# Altium footprint library SMPM-PF-P-HG-ST-EM-1.PcbLib: 1 footprints
Each footprint in its own frame and in the unit in brackets; x right, y up, seen from the top. Pads: shape width x height; smd on the part's side, far side on the other; paste and mask are expansions set on the pad; w line width, h text height; cw(c..) or ccw(c..) is an arc to the next point about the centre after c.
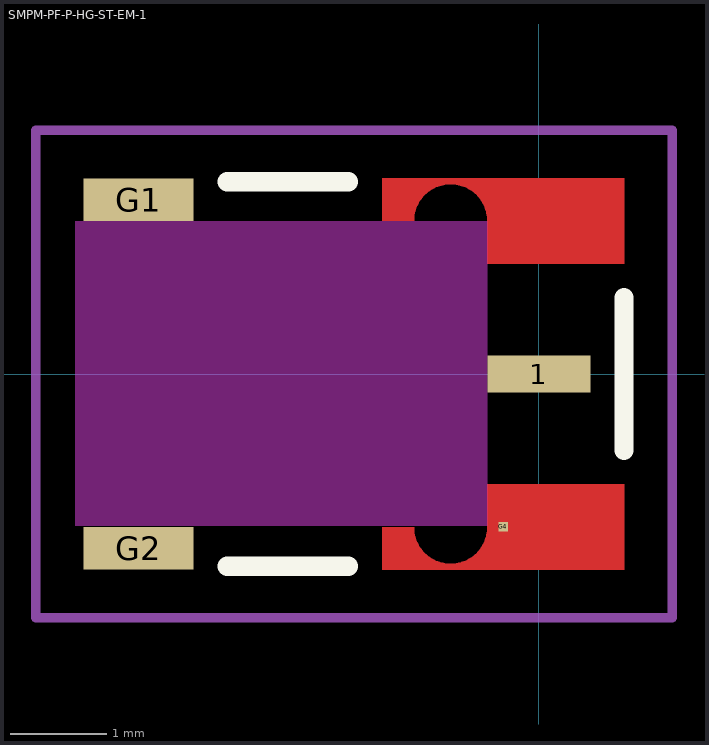
[diagram p0: the footprint, top view; thin cyan lines are the x and y axes]

## SMPM-PF-P-HG-ST-EM-1 [mm]
pads (4):
  rect 1.07x0.38 smd: 1(0,0)
  rect 1.14x0.44 smd: G1(-4.155,1.81) G2(-4.155,-1.81)
  rect 0.1x0.1 smd paste-1 mask+0: G4(-0.37,-1.587)
Top Layer:
  region: 0.885,-2.03 -1.625,-2.03 -1.625,-1.59 -1.295,-1.59 -1.294,-1.61 -1.293,-1.63 -1.29,-1.649 -1.287,-1.669 -1.282,-1.688 -1.276,-1.707 -1.27,-1.726 -1.262,-1.745 -1.254,-1.763 -1.244,-1.78 -1.234,-1.797 -1.222,-1.813 -1.21,-1.829 -1.197,-1.844 -1.184,-1.859 -1.169,-1.872 -1.154,-1.885 -1.138,-1.897 -1.122,-1.909 -1.105,-1.919 -1.088,-1.929 -1.07,-1.937 -1.051,-1.945 -1.032,-1.951 -1.013,-1.957 -0.994,-1.962 -0.974,-1.965 -0.955,-1.968 -0.935,-1.969 -0.915,-1.97 -0.895,-1.969 -0.875,-1.968 -0.856,-1.965 -0.836,-1.962 -0.817,-1.957 -0.798,-1.951 -0.779,-1.945 -0.76,-1.937 -0.742,-1.929 -0.725,-1.919 -0.708,-1.909 -0.692,-1.897 -0.676,-1.885 -0.661,-1.872 -0.646,-1.859 -0.633,-1.844 -0.62,-1.829 -0.608,-1.813 -0.596,-1.797 -0.586,-1.78 -0.576,-1.763 -0.568,-1.745 -0.56,-1.726 -0.554,-1.707 -0.548,-1.688 -0.543,-1.669 -0.54,-1.649 -0.537,-1.63 -0.536,-1.61 -0.535,-1.59 -0.535,-1.145 0.885,-1.145
  region: 0.885,1.145 -0.535,1.145 -0.535,1.59 -0.536,1.61 -0.537,1.63 -0.54,1.649 -0.543,1.669 -0.548,1.688 -0.554,1.707 -0.56,1.726 -0.568,1.745 -0.576,1.763 -0.586,1.78 -0.596,1.797 -0.608,1.813 -0.62,1.829 -0.633,1.844 -0.646,1.859 -0.661,1.872 -0.676,1.885 -0.692,1.897 -0.708,1.909 -0.725,1.919 -0.742,1.929 -0.76,1.937 -0.779,1.945 -0.798,1.951 -0.817,1.957 -0.836,1.962 -0.856,1.965 -0.875,1.968 -0.895,1.969 -0.915,1.97 -0.935,1.969 -0.955,1.968 -0.974,1.965 -0.994,1.962 -1.013,1.957 -1.032,1.951 -1.051,1.945 -1.07,1.937 -1.088,1.929 -1.105,1.919 -1.122,1.909 -1.138,1.897 -1.154,1.885 -1.169,1.872 -1.184,1.859 -1.197,1.844 -1.21,1.829 -1.222,1.813 -1.234,1.797 -1.244,1.78 -1.254,1.763 -1.262,1.745 -1.27,1.726 -1.276,1.707 -1.282,1.688 -1.287,1.669 -1.29,1.649 -1.293,1.63 -1.294,1.61 -1.295,1.59 -1.625,1.59 -1.625,2.03 0.885,2.03
Top Overlay:
  lines w0.2: -3.235,-1.995 -1.975,-1.995 ; -3.235,1.995 -1.975,1.995 ; 0.885,-0.795 0.885,0.795
Top Paste:
  region: 0.885,-2.03 -1.625,-2.03 -1.625,-1.59 -1.295,-1.59 -1.294,-1.61 -1.293,-1.63 -1.29,-1.649 -1.287,-1.669 -1.282,-1.688 -1.276,-1.707 -1.27,-1.726 -1.262,-1.745 -1.254,-1.763 -1.244,-1.78 -1.234,-1.797 -1.222,-1.813 -1.21,-1.829 -1.197,-1.844 -1.184,-1.859 -1.169,-1.872 -1.154,-1.885 -1.138,-1.897 -1.122,-1.909 -1.105,-1.919 -1.088,-1.929 -1.07,-1.937 -1.051,-1.945 -1.032,-1.951 -1.013,-1.957 -0.994,-1.962 -0.974,-1.965 -0.955,-1.968 -0.935,-1.969 -0.915,-1.97 -0.895,-1.969 -0.875,-1.968 -0.856,-1.965 -0.836,-1.962 -0.817,-1.957 -0.798,-1.951 -0.779,-1.945 -0.76,-1.937 -0.742,-1.929 -0.725,-1.919 -0.708,-1.909 -0.692,-1.897 -0.676,-1.885 -0.661,-1.872 -0.646,-1.859 -0.633,-1.844 -0.62,-1.829 -0.608,-1.813 -0.596,-1.797 -0.586,-1.78 -0.576,-1.763 -0.568,-1.745 -0.56,-1.726 -0.554,-1.707 -0.548,-1.688 -0.543,-1.669 -0.54,-1.649 -0.537,-1.63 -0.536,-1.61 -0.535,-1.59 -0.535,-1.145 0.885,-1.145
  region: 0.885,1.145 -0.535,1.145 -0.535,1.59 -0.536,1.61 -0.537,1.63 -0.54,1.649 -0.543,1.669 -0.548,1.688 -0.554,1.707 -0.56,1.726 -0.568,1.745 -0.576,1.763 -0.586,1.78 -0.596,1.797 -0.608,1.813 -0.62,1.829 -0.633,1.844 -0.646,1.859 -0.661,1.872 -0.676,1.885 -0.692,1.897 -0.708,1.909 -0.725,1.919 -0.742,1.929 -0.76,1.937 -0.779,1.945 -0.798,1.951 -0.817,1.957 -0.836,1.962 -0.856,1.965 -0.875,1.968 -0.895,1.969 -0.915,1.97 -0.935,1.969 -0.955,1.968 -0.974,1.965 -0.994,1.962 -1.013,1.957 -1.032,1.951 -1.051,1.945 -1.07,1.937 -1.088,1.929 -1.105,1.919 -1.122,1.909 -1.138,1.897 -1.154,1.885 -1.169,1.872 -1.184,1.859 -1.197,1.844 -1.21,1.829 -1.222,1.813 -1.234,1.797 -1.244,1.78 -1.254,1.763 -1.262,1.745 -1.27,1.726 -1.276,1.707 -1.282,1.688 -1.287,1.669 -1.29,1.649 -1.293,1.63 -1.294,1.61 -1.295,1.59 -1.625,1.59 -1.625,2.03 0.885,2.03
Top Solder:
  region: 0.985,-2.13 -1.725,-2.13 -1.725,-1.59 -1.295,-1.59 -1.294,-1.61 -1.293,-1.63 -1.29,-1.649 -1.287,-1.669 -1.282,-1.688 -1.276,-1.707 -1.27,-1.726 -1.262,-1.745 -1.254,-1.763 -1.244,-1.78 -1.234,-1.797 -1.222,-1.813 -1.21,-1.829 -1.197,-1.844 -1.184,-1.859 -1.169,-1.872 -1.154,-1.885 -1.138,-1.897 -1.122,-1.909 -1.105,-1.919 -1.088,-1.929 -1.07,-1.937 -1.051,-1.945 -1.032,-1.951 -1.013,-1.957 -0.994,-1.962 -0.974,-1.965 -0.955,-1.968 -0.935,-1.969 -0.915,-1.97 -0.895,-1.969 -0.875,-1.968 -0.856,-1.965 -0.836,-1.962 -0.817,-1.957 -0.798,-1.951 -0.779,-1.945 -0.76,-1.937 -0.742,-1.929 -0.725,-1.919 -0.708,-1.909 -0.692,-1.897 -0.676,-1.885 -0.661,-1.872 -0.646,-1.859 -0.633,-1.844 -0.62,-1.829 -0.608,-1.813 -0.596,-1.797 -0.586,-1.78 -0.576,-1.763 -0.568,-1.745 -0.56,-1.726 -0.554,-1.707 -0.548,-1.688 -0.543,-1.669 -0.54,-1.649 -0.537,-1.63 -0.536,-1.61 -0.535,-1.59 -0.535,-1.045 0.985,-1.045
  region: 0.985,1.045 -0.535,1.045 -0.535,1.59 -0.536,1.61 -0.537,1.63 -0.54,1.649 -0.543,1.669 -0.548,1.688 -0.554,1.707 -0.56,1.726 -0.568,1.745 -0.576,1.763 -0.586,1.78 -0.596,1.797 -0.608,1.813 -0.62,1.829 -0.633,1.844 -0.646,1.859 -0.661,1.872 -0.676,1.885 -0.692,1.897 -0.708,1.909 -0.725,1.919 -0.742,1.929 -0.76,1.937 -0.779,1.945 -0.798,1.951 -0.817,1.957 -0.836,1.962 -0.856,1.965 -0.875,1.968 -0.895,1.969 -0.915,1.97 -0.935,1.969 -0.955,1.968 -0.974,1.965 -0.994,1.962 -1.013,1.957 -1.032,1.951 -1.051,1.945 -1.07,1.937 -1.088,1.929 -1.105,1.919 -1.122,1.909 -1.138,1.897 -1.154,1.885 -1.169,1.872 -1.184,1.859 -1.197,1.844 -1.21,1.829 -1.222,1.813 -1.234,1.797 -1.244,1.78 -1.254,1.763 -1.262,1.745 -1.27,1.726 -1.276,1.707 -1.282,1.688 -1.287,1.669 -1.29,1.649 -1.293,1.63 -1.294,1.61 -1.295,1.59 -1.725,1.59 -1.725,2.13 0.985,2.13
Keep-Out Layer:
  board cut-out: -4.813,-1.577 -0.536,-1.577 -0.536,1.587 -4.813,1.587
Top Courtyard:
  lines w0.1: -5.222,-2.529 -5.222,2.53 1.385,2.53 1.385,-2.529 -4.724,-2.529 -5.222,-2.529
3D body "SMPM-PF-P-HG-ST-EM-1.stp": height 1.71, standoff -1.46, extent -4.712,-2.032 0.902,1.956